# EAGLE library part ATMEGA32 (library atmel)
8-bit AVR Microcontroller 32 Kbytes FLASH 2 Kbytes SRAM 1 Kbytes EEPROM USART 8-channel 10 bit ADC
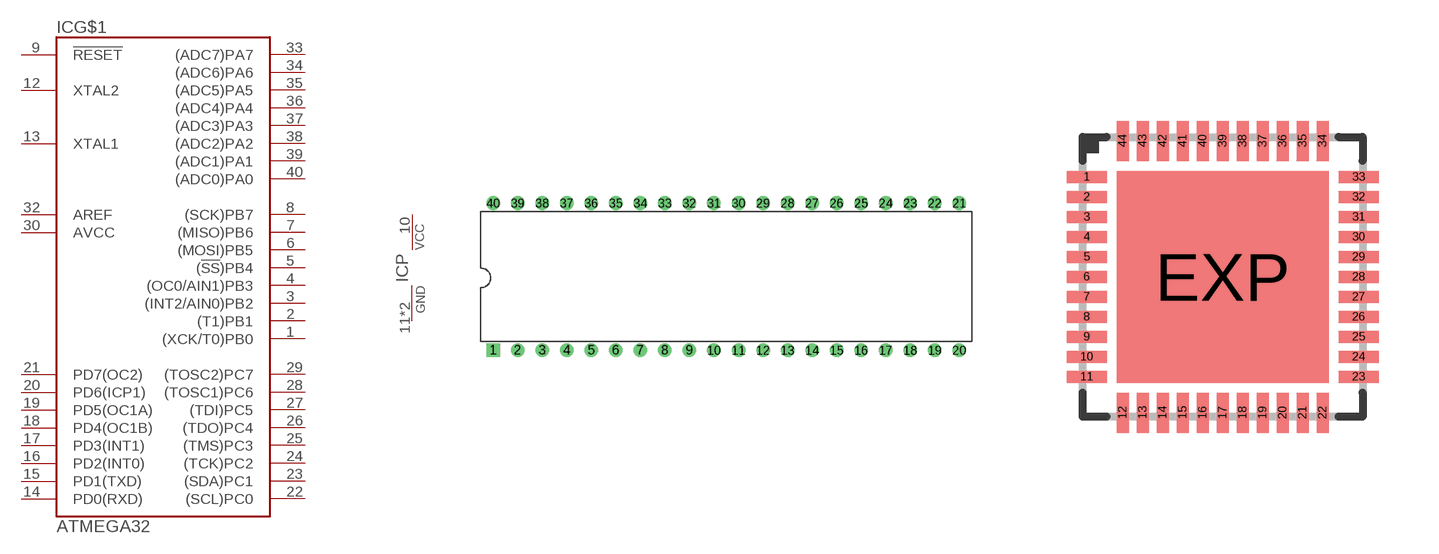
[diagram p37: symbol with the pads of DIL40; footprints DIL40, QFN44_7X7_0.50]

Designator prefix IC; gates G$1=MEGA32 P=PWR

## ATMEGA32-16PU, ATMEGA32A-PU, ATMEGA32L-8PU  [DIL40]
1  G$1:(XCK/T0)PB0
2  G$1:(T1)PB1
3  G$1:(INT2/AIN0)PB2
4  G$1:(OC0/AIN1)PB3
5  G$1:(!SS!)PB4
6  G$1:(MOSI)PB5
7  G$1:(MISO)PB6
8  G$1:(SCK)PB7
9  G$1:!RESET  in
10  P:VCC  pwr
11  P:GND  pwr
12  G$1:XTAL2
13  G$1:XTAL1
14  G$1:PD0(RXD)
15  G$1:PD1(TXD)
16  G$1:PD2(INT0)
17  G$1:PD3(INT1)
18  G$1:PD4(OC1B)
19  G$1:PD5(OC1A)
20  G$1:PD6(ICP1)
21  G$1:PD7(OC2)
22  G$1:(SCL)PC0
23  G$1:(SDA)PC1
24  G$1:(TCK)PC2
25  G$1:(TMS)PC3
26  G$1:(TDO)PC4
27  G$1:(TDI)PC5
28  G$1:(TOSC1)PC6
29  G$1:(TOSC2)PC7
30  G$1:AVCC  pwr
31  P:GND  pwr
32  G$1:AREF  pas
33  G$1:(ADC7)PA7
34  G$1:(ADC6)PA6
35  G$1:(ADC5)PA5
36  G$1:(ADC4)PA4
37  G$1:(ADC3)PA3
38  G$1:(ADC2)PA2
39  G$1:(ADC1)PA1
40  G$1:(ADC0)PA0

## ATMEGA32-16MU, ATMEGA32A-MU, ATMEGA32L-8MU  [QFN44_7X7_0.50]
1  G$1:(MOSI)PB5
2  G$1:(MISO)PB6
3  G$1:(SCK)PB7
4  G$1:!RESET  in
5  P:VCC  pwr
6  P:GND  pwr
7  G$1:XTAL2
8  G$1:XTAL1
9  G$1:PD0(RXD)
10  G$1:PD1(TXD)
11  G$1:PD2(INT0)
12  G$1:PD3(INT1)
13  G$1:PD4(OC1B)
14  G$1:PD5(OC1A)
15  G$1:PD6(ICP1)
16  G$1:PD7(OC2)
17  P:VCC  pwr
18  P:GND  pwr
19  G$1:(SCL)PC0
20  G$1:(SDA)PC1
21  G$1:(TCK)PC2
22  G$1:(TMS)PC3
23  G$1:(TDO)PC4
24  G$1:(TDI)PC5
25  G$1:(TOSC1)PC6
26  G$1:(TOSC2)PC7
27  G$1:AVCC  pwr
28  P:GND  pwr
29  G$1:AREF  pas
30  G$1:(ADC7)PA7
31  G$1:(ADC6)PA6
32  G$1:(ADC5)PA5
33  G$1:(ADC4)PA4
34  G$1:(ADC3)PA3
35  G$1:(ADC2)PA2
36  G$1:(ADC1)PA1
37  G$1:(ADC0)PA0
38  P:VCC  pwr
39  P:GND  pwr
40  G$1:(XCK/T0)PB0
41  G$1:(T1)PB1
42  G$1:(INT2/AIN0)PB2
43  G$1:(OC0/AIN1)PB3
44  G$1:(!SS!)PB4
EXP  P:GND  pwr

## ATMEGA32A-MN  [QFN44_7X7_0.50]
Pads as for QFN44_7X7_0.50

## ATMEGA32-16AU, ATMEGA32A-AU, ATMEGA32L-8AU  [QFP44_10X10_0.80]
1  G$1:(MOSI)PB5
2  G$1:(MISO)PB6
3  G$1:(SCK)PB7
4  G$1:!RESET  in
5  P:VCC  pwr
6  P:GND  pwr
7  G$1:XTAL2
8  G$1:XTAL1
9  G$1:PD0(RXD)
10  G$1:PD1(TXD)
11  G$1:PD2(INT0)
12  G$1:PD3(INT1)
13  G$1:PD4(OC1B)
14  G$1:PD5(OC1A)
15  G$1:PD6(ICP1)
16  G$1:PD7(OC2)
17  P:VCC  pwr
18  P:GND  pwr
19  G$1:(SCL)PC0
20  G$1:(SDA)PC1
21  G$1:(TCK)PC2
22  G$1:(TMS)PC3
23  G$1:(TDO)PC4
24  G$1:(TDI)PC5
25  G$1:(TOSC1)PC6
26  G$1:(TOSC2)PC7
27  G$1:AVCC  pwr
28  P:GND  pwr
29  G$1:AREF  pas
30  G$1:(ADC7)PA7
31  G$1:(ADC6)PA6
32  G$1:(ADC5)PA5
33  G$1:(ADC4)PA4
34  G$1:(ADC3)PA3
35  G$1:(ADC2)PA2
36  G$1:(ADC1)PA1
37  G$1:(ADC0)PA0
38  P:VCC  pwr
39  P:GND  pwr
40  G$1:(XCK/T0)PB0
41  G$1:(T1)PB1
42  G$1:(INT2/AIN0)PB2
43  G$1:(OC0/AIN1)PB3
44  G$1:(!SS!)PB4

## ATMEGA32A-AN  [QFP44_10X10_0.80]
Pads as for QFP44_10X10_0.80

## Footprint DIL40 (pad centres in mm)
DIL package, pin row distance 600mil
drill 0.8 pad 1.4 square: 1 -24.13,-7.62
drill 0.8 pad 1.4: 2 -21.59,-7.62; 3 -19.05,-7.62; 4 -16.51,-7.62; 5 -13.97,-7.62; 6 -11.43,-7.62; 7 -8.89,-7.62; 8 -6.35,-7.62; 9 -3.81,-7.62; 10 -1.27,-7.62; 11 1.27,-7.62; 12 3.81,-7.62; 13 6.35,-7.62; 14 8.89,-7.62; 15 11.43,-7.62; 16 13.97,-7.62; 17 16.51,-7.62; 18 19.05,-7.62; 19 21.59,-7.62; 20 24.13,-7.62; 21 24.13,7.62; 22 21.59,7.62; 23 19.05,7.62; 24 16.51,7.62; 25 13.97,7.62; 26 11.43,7.62; 27 8.89,7.62; 28 6.35,7.62; 29 3.81,7.62; 30 1.27,7.62; 31 -1.27,7.62; 32 -3.81,7.62; 33 -6.35,7.62; 34 -8.89,7.62; 35 -11.43,7.62; 36 -13.97,7.62; 37 -16.51,7.62; 38 -19.05,7.62; 39 -21.59,7.62; 40 -24.13,7.62

## Footprint QFN44_7X7_0.50 (pad centres in mm)
44-Lead Plastic QFN, 7mm x 7mm body, 0.5mm lead pitch, exposed pad ATMEL Code: 44M1, ZWS
smd 1 x 0.3: 1 -3.4,2.5; 2 -3.4,2; 3 -3.4,1.5; 4 -3.4,1; 5 -3.4,0.5; 6 -3.4,0; 7 -3.4,-0.5; 8 -3.4,-1; 9 -3.4,-1.5; 10 -3.4,-2; 11 -3.4,-2.5; 23 3.4,-2.5; 24 3.4,-2; 25 3.4,-1.5; 26 3.4,-1; 27 3.4,-0.5; 28 3.4,0; 29 3.4,0.5; 30 3.4,1; 31 3.4,1.5; 32 3.4,2; 33 3.4,2.5
smd 0.3 x 1: 12 -2.5,-3.4; 13 -2,-3.4; 14 -1.5,-3.4; 15 -1,-3.4; 16 -0.5,-3.4; 17 0,-3.4; 18 0.5,-3.4; 19 1,-3.4; 20 1.5,-3.4; 21 2,-3.4; 22 2.5,-3.4; 34 2.5,3.4; 35 2,3.4; 36 1.5,3.4; 37 1,3.4; 38 0.5,3.4; 39 0,3.4; 40 -0.5,3.4; 41 -1,3.4; 42 -1.5,3.4; 43 -2,3.4; 44 -2.5,3.4
smd 5.3 x 5.3: EXP 0,0

## Footprint QFP44_10X10_0.80 (pad centres in mm)
Thin Plasic Quad Flat Package, 10mm x 10mm body, 0.80mm lead pitch JEDEC: MS-026 ACB ATMEL Code: 44A
smd 1.5 x 0.55: 1 -5.7,4; 2 -5.7,3.2; 3 -5.7,2.4; 4 -5.7,1.6; 5 -5.7,0.8; 6 -5.7,0; 7 -5.7,-0.8; 8 -5.7,-1.6; 9 -5.7,-2.4; 10 -5.7,-3.2; 11 -5.7,-4; 23 5.7,-4; 24 5.7,-3.2; 25 5.7,-2.4; 26 5.7,-1.6; 27 5.7,-0.8; 28 5.7,0; 29 5.7,0.8; 30 5.7,1.6; 31 5.7,2.4; 32 5.7,3.2; 33 5.7,4
smd 0.55 x 1.5: 12 -4,-5.7; 13 -3.2,-5.7; 14 -2.4,-5.7; 15 -1.6,-5.7; 16 -0.8,-5.7; 17 0,-5.7; 18 0.8,-5.7; 19 1.6,-5.7; 20 2.4,-5.7; 21 3.2,-5.7; 22 4,-5.7; 34 4,5.7; 35 3.2,5.7; 36 2.4,5.7; 37 1.6,5.7; 38 0.8,5.7; 39 0,5.7; 40 -0.8,5.7; 41 -1.6,5.7; 42 -2.4,5.7; 43 -3.2,5.7; 44 -4,5.7